# Altium schematic symbol library B82144A2103K.SchLib: 1 symbol
Pins are listed as number, name and electrical type; pins without a type are passive.

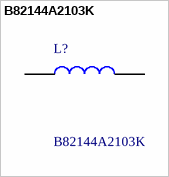
[diagram p0: symbol B82144A2103K]

## B82144A2103K
designator L?
Fixed Inductors 10uH 1.4A 0.22ohms; Manufacturer_Name: TDK; Mouser Part Number: 871-B82144A2103K; Mouser Price/Stock: https://www.mouser.co.uk/ProductDetail/EPCOS-TDK/B82144A2103K?qs=v4Mlc8l4PHlohLUSZkySQA%3D%3D; Manufacturer_Part_Number: B82144A2103K; Datasheet Link: https://componentsearchengine.com/Datasheets/2/B82144A2103K.pdf
footprint INDAD3280W80L1200D520
pins: 1, 2